# Altium integrated library SM08B-GHS-TB_LF__SN_.IntLib: 1 symbol
Pins are listed as number, name and electrical type; pins without a type are passive.

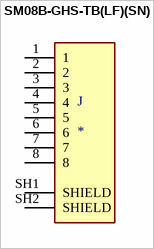
[diagram p0: symbol SM08B-GHS-TB(LF)(SN)]

## SM08B-GHS-TB(LF)(SN)
designator J
Connector Header Surface Mount, Right Angle 8 position 0.049 _1.25mm_; MF: JST Sales; MP: SM08B-GHS-TB_LF__SN_; Value: *; Digi-Key_Part_Number: 455-1570-1-ND; Package: None; Digi-Key_Purchase_URL: https://www.digikey.com/product-detail/en/jst-sales-america-inc/SM08B-GHS-TB_LF__SN_/455-1570-1-ND/807838?utm_source=snapeda&utm_medium=aggregator&utm_campaign=symbol; SnapEDA_Link: https://www.snapeda.com/parts/SM08B-GHS-TB%28LF%29%28SN%29/JST%20Sales%20America%20Inc./view-part/1162121/?ref=snap
footprint JST_SM08B-GHS-TB(LF)(SN)
pins: 1, 2, 3, 4, 5, 6, 7, 8, SH1 SHIELD, SH2 SHIELD